# Altium integrated library Кондер 1мкФ.IntLib: 1 symbol
Pins are listed as number, name and electrical type; pins without a type are passive.

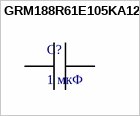
[diagram p0: symbol GRM188R61E105KA12D]

## GRM188R61E105KA12D
designator C?, comment 1 мкФ
SMD KondansatÃ¶r X5R(EIA) Kapasite: 1.0uF Tol. %10. Anma VoltajÄ±: 25Vdc; Типоразмер: 0603; Точность: 10%; Напряжение: 25 В; Емкость: 1 мкФ; Т коэф. емкости: X5R
footprint CAPC1608X90N
pins: 1, 2